# EAGLE library part BNO055_ADAFRUIT_BREAKOUT (library Bosch_Adafruit_BNO055)
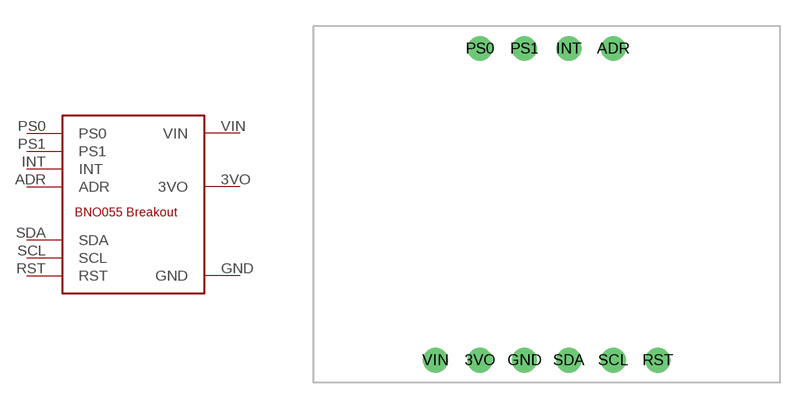
[diagram p0: symbol with the pads of BNO055_BREAKOUT; footprint BNO055_BREAKOUT]

Designator prefix -

## BNO055_ADAFRUIT_BREAKOUT  [BNO055_BREAKOUT]
3VO  3VO
ADR  ADR
GND  GND
INT  INT
PS0  PS0
PS1  PS1
RST  RST
SCL  SCL
SDA  SDA
VIN  VIN

## Footprint BNO055_BREAKOUT (pad centres in mm)
drill 0.9: 3VO 9.525,1.27; ADR 17.145,19.05; GND 12.065,1.27; INT 14.605,19.05; PS0 9.525,19.05; PS1 12.065,19.05; RST 19.685,1.27; SCL 17.145,1.27; SDA 14.605,1.27; VIN 6.985,1.27